# EAGLE library part RN-41-BB (library Neel)
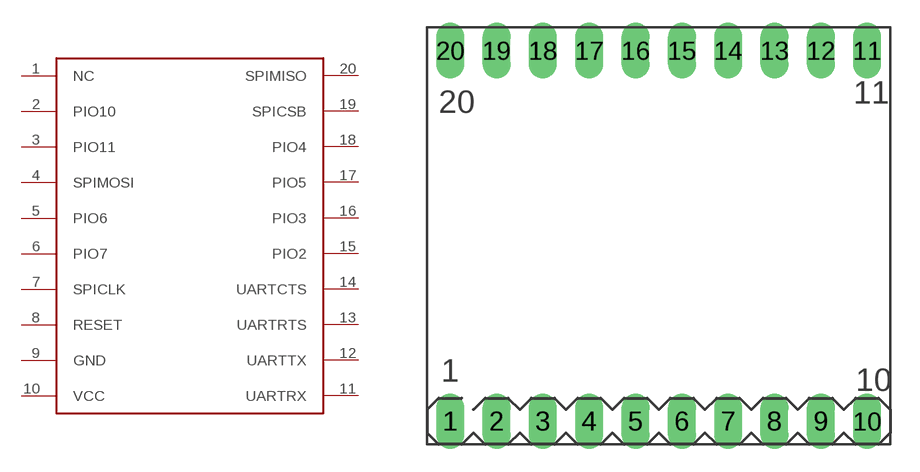
[diagram p3: symbol with the pads of RN-41-BB; footprint RN-41-BB]

Designator prefix -

## RN-41-BB  [RN-41-BB]
1  NC
2  PIO10
3  PIO11
4  SPIMOSI
5  PIO6
6  PIO7
7  SPICLK
8  RESET
9  GND
10  VCC
11  UARTRX
12  UARTTX
13  UARTRTS
14  UARTCTS
15  PIO2
16  PIO3
17  PIO5
18  PIO4
19  SPICSB
20  SPIMISO

## Footprint RN-41-BB (pad centres in mm)
PIN HEADER
drill 1.016 long: 1 -11.43,-10.16; 2 -8.89,-10.16; 3 -6.35,-10.16; 4 -3.81,-10.16; 5 -1.27,-10.16; 6 1.27,-10.16; 7 3.81,-10.16; 8 6.35,-10.16; 9 8.89,-10.16; 10 11.43,-10.16; 11 11.43,10.16; 12 8.89,10.16; 13 6.35,10.16; 14 3.81,10.16; 15 1.27,10.16; 16 -1.27,10.16; 17 -3.81,10.16; 18 -6.35,10.16; 19 -8.89,10.16; 20 -11.43,10.16